# EAGLE library part GE09R (library _mtvl.resistor-sil)
SIL RESISTOR
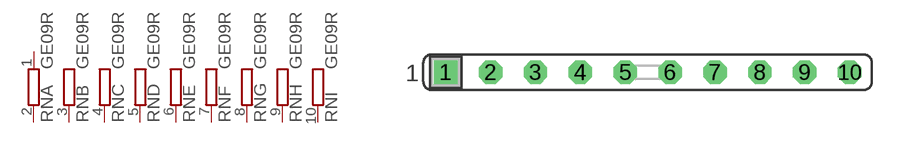
[diagram p23: symbol with the pads of SIL10; footprint SIL10]

Designator prefix RN; gates A=R-NV B=R-NV1 C=R-NV1 D=R-NV1 E=R-NV1 F=R-NV1 G=R-NV1 H=R-NV1 I=R-NV1

## GE09R (OC_FARNELL: unknown; OC_NEWARK: unknown)  [SIL10]
1  A:1  pas
2  A:2  pas
3  B:2  pas
4  C:2  pas
5  D:2  pas
6  E:2  pas
7  F:2  pas
8  G:2  pas
9  H:2  pas
10  I:2  pas

## Footprint SIL10 (pad centres in mm)
Single In Line
drill 0.813 square: 1 -11.43,0
drill 0.813 octagon: 2 -8.89,0; 3 -6.35,0; 4 -3.81,0; 5 -1.27,0; 6 1.27,0; 7 3.81,0; 8 6.35,0; 9 8.89,0; 10 11.43,0